# Altium footprint library HDR2x8.PcbLib: 1 footprints
Each footprint in its own frame and in the unit in brackets; x right, y up, seen from the top. Pads: shape width x height; smd on the part's side, far side on the other; paste and mask are expansions set on the pad; w line width, h text height; cw(c..) or ccw(c..) is an arc to the next point about the centre after c.
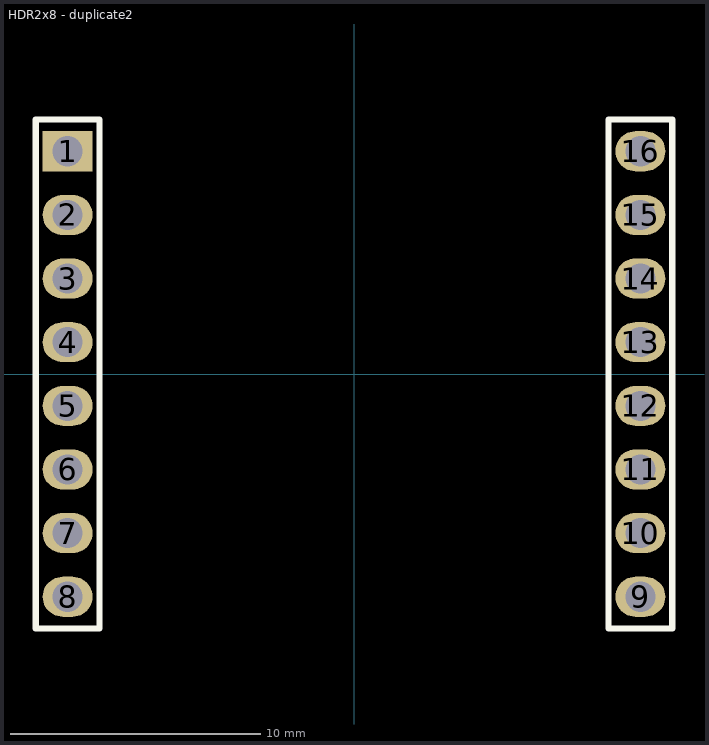
[diagram p0: the footprint, top view; thin cyan lines are the x and y axes]

## HDR2x8 - duplicate2 [mm]
pads (16):
  rect 2x1.6 hole 1.2: 1(-11.43,8.89)
  oval 2x1.6 hole 1.2: 2(-11.43,6.35) 3(-11.43,3.81) 4(-11.43,1.27) 5(-11.43,-1.27) 6(-11.43,-3.81) 7(-11.43,-6.35) 8(-11.43,-8.89) 9(11.43,-8.89) 10(11.43,-6.35) 11(11.43,-3.81) 12(11.43,-1.27) 13(11.43,1.27) 14(11.43,3.81) 15(11.43,6.35) 16(11.43,8.89)
Top Overlay:
  lines w0.254: -12.7,-10.16 -12.7,10.16 -10.16,10.16 -10.16,-10.16 -12.7,-10.16 ; 10.16,-10.16 10.16,10.16 12.7,10.16 12.7,-10.16 10.16,-10.16